# Altium footprint library PCB - OPTOISOLATOR - TAIWAN SEMI TPC816S1C RAG.PcbLib: 1 footprints
Each footprint in its own frame and in the unit in brackets; x right, y up, seen from the top. Pads: shape width x height; smd on the part's side, far side on the other; paste and mask are expansions set on the pad; w line width, h text height; cw(c..) or ccw(c..) is an arc to the next point about the centre after c.
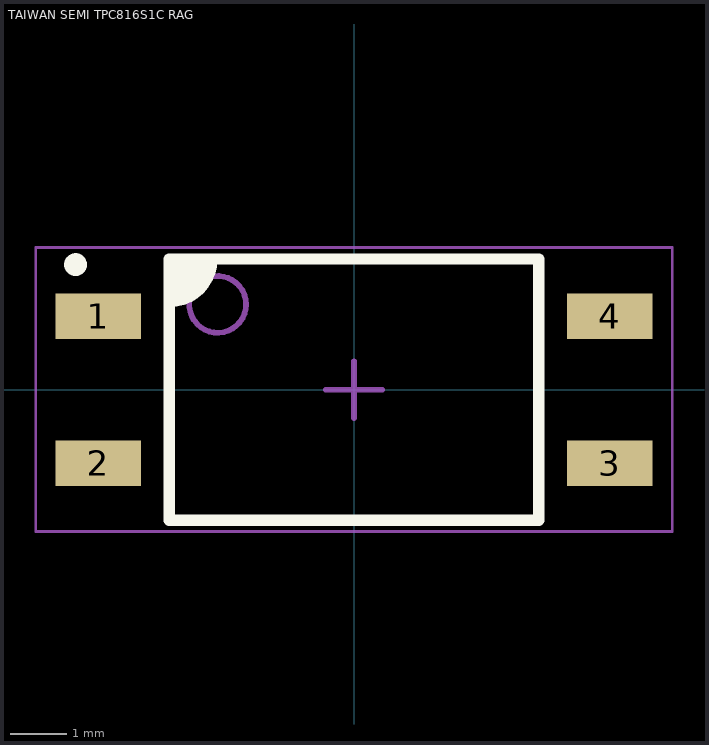
[diagram p0: the footprint, top view; thin cyan lines are the x and y axes]

## TAIWAN SEMI TPC816S1C RAG [mm] "Optoisolator Transistor Output 5000Vrms 1 Channel, 2.59mm Pitch, 6.5x4.6 mm Body, 4-SOIC Package"
height 3.88
pads (4):
  rect 1.5x0.8 smd: 1(-4.5,1.295) 2(-4.5,-1.295) 3(4.5,-1.295) 4(4.5,1.295)
Top Overlay:
  circle w0.2: c-4.9,2.2 r0.1
  region: -3.25,2.299 -2.5,2.299 -2.5,2.226 -2.529,2.081 -2.585,1.944 -2.667,1.821 -2.772,1.717 -2.895,1.635 -3.031,1.578 -3.176,1.549 -3.25,1.549
  lines w0.2: -3.25,1.549 ccw(c-3.25,2.299) -2.5,2.299 ; -3.25,-2.299 -3.25,2.299 0,2.299 3.25,2.299 3.25,-2.299 0,-2.299 -3.25,-2.299
Mechanical 13:
  circle w0.1: c-2.4,1.5 r0.5
  lines w0.1: -3.25,-2.299 -3.25,2.299 0,2.299 3.25,2.299 3.25,-2.299 0,-2.299 -3.25,-2.299
Mechanical 15 (Mech15):
  lines w0.05: -5.6,-2.5 -5.6,2.5 5.6,2.5 5.6,-2.5 -5.6,-2.5
  lines w0.1: -0.5,0 0,0 ; 0,-0.5 0,0 ; 0,0.5 0,0 ; 0.5,0 0,0
3D body "Taiwan Semi - SOP-4 v3.step": height 3.68, standoff 0, extent -5.025,-2.299 5.025,2.299